# Altium schematic symbol library LM2717.SchLib: 1 symbol
Pins are listed as number, name and electrical type; pins without a type are passive.

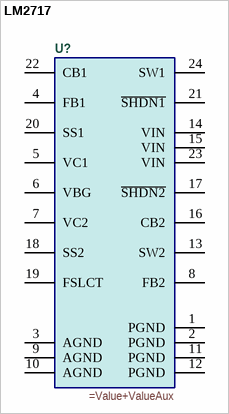
[diagram p0: symbol LM2717]

## LM2717
designator U?
=Description
pins: 1 PGND, 2 PGND, 3 AGND, 4 FB1, 5 VC1, 6 VBG, 7 VC2, 8 FB2, 9 AGND, 10 AGND, 11 PGND, 12 PGND, 13 SW2, 14 VIN, 15 VIN, 16 CB2, 17 ~{SHDN2}, 18 SS2, 19 FSLCT, 20 SS1, 21 ~{SHDN1}, 22 CB1, 23 VIN, 24 SW1